# EAGLE library part SWITCH_DPDT (library mspfacedraft3)
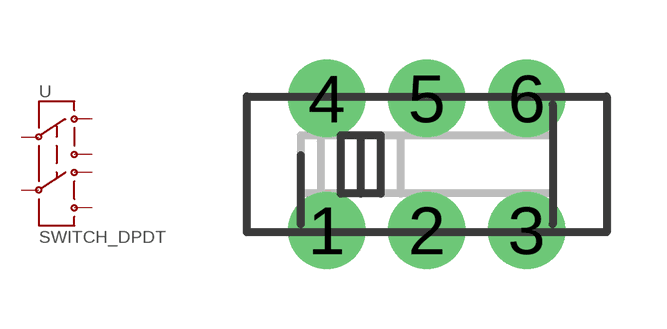
[diagram p2: symbol with the pads of JS_DPDT_TH; footprint JS_DPDT_TH]

Designator prefix -

## SWITCH_DPDT  [JS_DPDT_TH]
1  1
2  2
3  3
4  4
5  5
6  6

## Footprint JS_DPDT_TH (pad centres in mm)
drill 1 pad 1.93: 1 -2.5,-1.65; 2 0,-1.65; 3 2.5,-1.65; 4 -2.5,1.65; 5 0,1.65; 6 2.5,1.65